# Altium schematic symbol library G2_LV.SCHLIB: 40 symbols
Pins are listed as number, name and electrical type; pins without a type are passive.

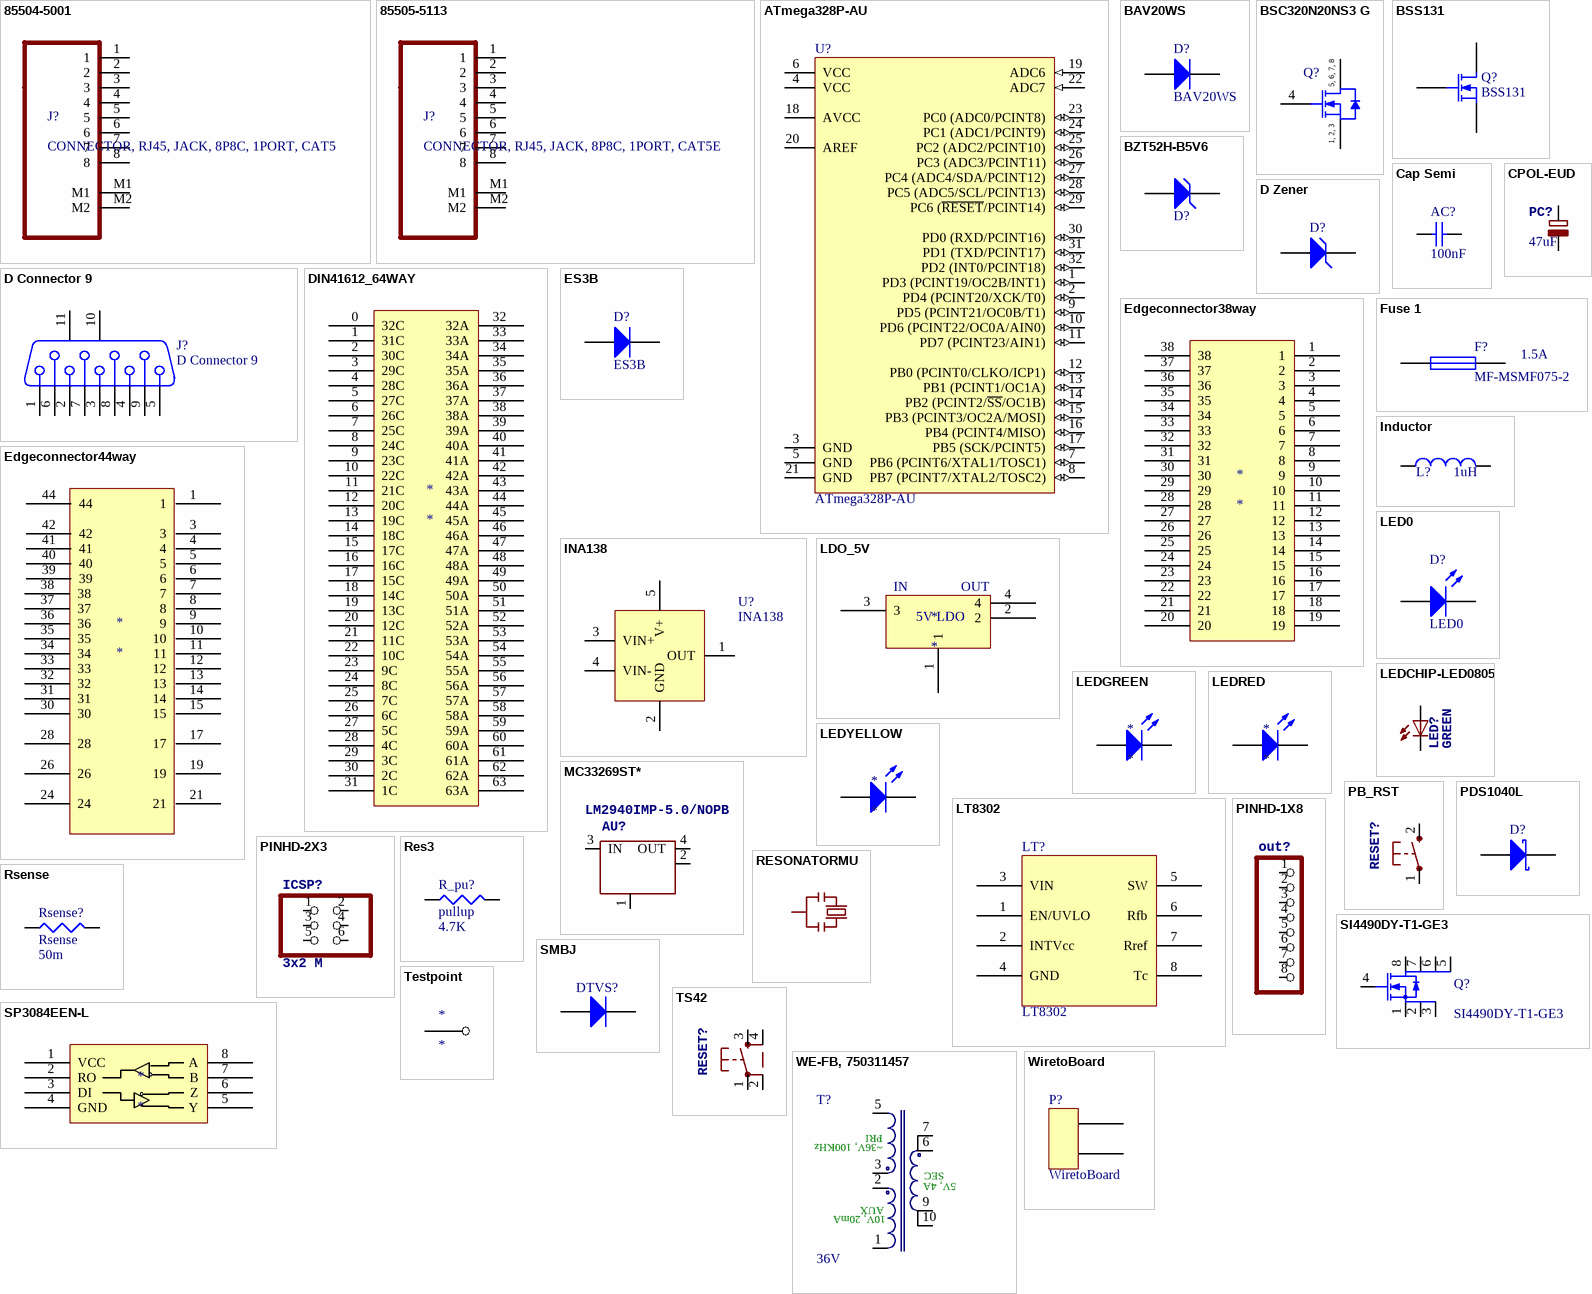
[diagram p0: symbols 85504-5001 to WiretoBoard]

## 85504-5001
designator J?, comment CONNECTOR, RJ45, JACK, 8P8C, 1PORT, CAT5
MPN: 85504-5001; OC_FARNELL: 2313732; OC_NEWARK: 96W3689; PACKAGE: RJ45, JACK, 8P8C; SUPPLIER: MOLEX
footprint MOLEX_85504-5001
pins: 1, 2, 3, 4, 5, 6, 7, 8, M1, M2

## 85505-5113
designator J?, comment CONNECTOR, RJ45, JACK, 8P8C, 1PORT, CAT5E
MPN: 85505-5113; OC_FARNELL: 1560163; OC_NEWARK: 96M8715; PACKAGE: RJ45, JACK, 8P8C; SUPPLIER: Molex
footprint MOLEX_85505-5113
pins: 1, 2, 3, 4, 5, 6, 7, 8, M1, M2

## ATmega328P-AU
designator U?
8-bit AVR Microcontroller, 32KB Flash, 1KB EEPROM, 2KB SRAM, 32-pin TQFP, Industrial Grade (-40°C to 85°C); DatasheetVersion: revD, May-2011; PackageVersion: revC, Oct-2010; PackageReference: 32A; PackageDescription: 32-Lead, 7x7x1.0 mm Body, 0.8mm Lead Pitch, Thin Profile Plastic Quad Flat Package (TQFP); Code_JEDEC: MS-026-ABA; ComponentLink1Description: Manufacturer URL; ComponentLink1URL: http://www.atmel.com/; ComponentLink2Description: ATmega48A/48PA/88A/88PA/168A/168PA/328/328P Datasheet; ComponentLink2URL: http://www.atmel.com/dyn/resources/prod_documents/doc8271.pdf; ComponentLink3Description: ATmega48A/48PA/88A/88PA/168A/168PA/328/328P Summary; ComponentLink3URL: http://www.atmel.com/dyn/resources/prod_documents/8271S.pdf; PartNo: ATmega328P-AU
footprint 32A_N (Thin QFP, 32-Leads, Body 7x7mm, Pitch 0.8mm, IPC Medium Density)
footprint 32A_L (Thin QFP, 32-Leads, Body 7x7mm, Pitch 0.8mm, IPC High Density)
footprint 32A_M (Thin QFP, 32-Leads, Body 7x7mm, Pitch 0.8mm, IPC Low Density)
pins: 1 PD3 (PCINT19/OC2B/INT1) (io), 2 PD4 (PCINT20/XCK/T0) (io), 3 GND (power), 4 VCC (power), 5 GND (power), 6 VCC (power), 7 PB6 (PCINT6/XTAL1/TOSC1) (io), 8 PB7 (PCINT7/XTAL2/TOSC2) (io), 9 PD5 (PCINT21/OC0B/T1) (io), 10 PD6 (PCINT22/OC0A/AIN0) (io), 11 PD7 (PCINT23/AIN1) (io), 12 PB0 (PCINT0/CLKO/ICP1) (io), 13 PB1 (PCINT1/OC1A) (io), 14 PB2 (PCINT2/~{SS}/OC1B) (io), 15 PB3 (PCINT3/OC2A/MOSI) (io), 16 PB4 (PCINT4/MISO) (io), 17 PB5 (SCK/PCINT5) (io), 18 AVCC (power), 19 ADC6 (in), 20 AREF, 21 GND (power), 22 ADC7 (in), 23 PC0 (ADC0/PCINT8) (io), 24 PC1 (ADC1/PCINT9) (io), 25 PC2 (ADC2/PCINT10) (io), 26 PC3 (ADC3/PCINT11) (io), 27 PC4 (ADC4/SDA/PCINT12) (io), 28 PC5 (ADC5/SCL/PCINT13) (io), 29 PC6 (~{RESET}/PCINT14) (io), 30 PD0 (RXD/PCINT16) (io), 31 PD1 (TXD/PCINT17) (io), 32 PD2 (INT0/PCINT18) (io)

## BAV20WS
designator D?
Power Diode; Note: Pin 2 is not connected and not drawn.; Published: 21-Mar-2003; LatestRevisionDate: 29-May-2009; LatestRevisionNote: IPC-7351 Footprint Added.; DatasheetVersion: Oct-1999; PackageVersion: Sep-2001; PackageReference: SOT-23; Publisher: Altium Limited; PackageDescription: 3-Pin SOT-23 Package 0.95 mm Pitch, 2.5 mm Lead Span; ComponentLink1Description: Manufacturer Link; ComponentLink1URL: http://www.infineon.com/; ComponentLink2Description: Datasheet; ComponentLink2URL: http://www.infineon.com/upload/Document/cmc_upload/documents/080/656/bas116series.pdf; PartNo: BAV20WS
footprint SOD-323
pins: 1 K, 2 A

## BSC320N20NS3 G
designator Q?
N-Channel OptiMOS 3 Power-Transistor, 200 V VDS, 36 A ID, -55 to 150 degC, PG-TDSON-8-1, Reel, Green; Manufacturer: Infineon; PartNumber: BSC320N20NS3 G; Green: TRUE; ID (max): 36 A; IDpuls (max): 144 A; Polarity: N; Ptot (max): 125 W; QG: 22 nC; RDS (on) (max): 32 mOhm; Rth: 1 K/W; RthJA (max): 1.5 K/W; RthJC (max): 62 K/W; VDS (max): 200 V; VGS(th) (max): 4 V; VGS(th) (min): 2 V; DatasheetVersion: Rev. 2.3; PackageReference: PG-TDSON-8-1; PackageDescription: 8-Pin Plastic (Green) Thin Dual Small Outline Non-Leaded Package, 5.15 x 5.9 mm Body, 1.27 mm Pitch; Supplier 1: Digi-Key; Supplier Part Number 1: BSC320N20NS3 GTR-ND; Supplier 2: Digi-Key; Supplier Part Number 2: BSC320N20NS3 GCT-ND; Supplier 3: Digi-Key; Supplier Part Number 3: BSC320N20NS3 GDKR-ND; Supplier 4: Mouser; Supplier Part Number 4: 726-BSC320N20NS3G; Halogen-free: TRUE; Packing: Reel; Mounting Technology: Surface Mount; ComponentLink1Description: Manufacturer URL; ComponentLink1URL: http://www.infineon.com/; ComponentLink2Description: Datasheet; ComponentLink2URL: http://www.infineon.com/dgdl/BSC320N20NS3+G+Rev2.3.pdf?folderId=db3a3043163797a6011637d4bae7003b&fileId=db3a3043243b5f17012495e37b301571; ComponentLink3Description: Package Specification; ComponentLink3URL: http://www.infineon.com/cms/packages/SMD_-_Surface_Mounted_Devices/P-PG-TDSON/P-PG-TDSON-08-01x_2x_3.html?__locale=en
footprint INF-PG-TDSON-8-1_V (TDSON, 8-Leads, Body 6.15x5.15mm, Pitch 1.27mm)
pins: 1 SOURCE, 2 SOURCE, 3 SOURCE, 4 GATE, 5 DRAIN, 6 DRAIN, 7 DRAIN, 8 DRAIN
text: 5, 6, 7, 8; 1, 2, 3

## BSS131
designator Q?
N-Channel MOSFET; Published: 8-Jun-2000; LatestRevisionDate: 17-Jul-2002; LatestRevisionNote: Re-released for DXP Platform.; PackageVersion: 1995/1996; PackageReference: E3; Publisher: Altium Limited; PackageDescription: TO, Flat Index; 3 In-Line, Axial Leads; Body Dia. 4.6mm; Lead Dia. 0.5 mm (max); PartNo: BSS131
footprint SOT-23
pins: 1 G, 2 S, 3 D

## BZT52H-B5V6
designator D?  (value not drawn)
Zener Diode; Published: 8-Jun-2000; LatestRevisionDate: 17-Jul-2002; LatestRevisionNote: Re-released for DXP Platform.; PackageReference: DIODE-0.7; Publisher: Altium Limited; PackageDescription: Diode, Thru-Hole; 2 Leads; 0.7 in Pin Spacing; PartNo: BZT52H-B5V6
footprint SOD123F; pin to pad 1>2 2>1
pins: 1 A, 2 K

## Cap Semi
designator AC?  value 100nF  (hidden comment: Cap Semi)
Capacitor (Semiconductor SIM Model); PartNo: CC0603KRX7R9BB104; Published: 8-Jun-2000; LatestRevisionDate: 29-May-2009; LatestRevisionNote: IPC-7351 Footprint Added.; PackageReference: C1206; Publisher: Altium Limited; PackageDescription: Chip Capacitor
footprint C1206 (Chip Capacitor, Body 3.2x1.6mm, IPC High Density)
footprint 0402 (Chip Capacitor, Body 1.0x0.5mm, IPC High Density)
footprint C2512 (Chip Capacitor, Body 2.54x1.27mm, IPC High Density)
footprint 1608[0603] (Chip Capacitor, Body 1.6x0.8mm, IPC High Density)
footprint C1210 (Chip Capacitor, Body 3.2x2.5mm, IPC High Density)
simulation model CAP (Semiconductor Capacitor)
signal-integrity model Cap Semi
footprint 1812 (Chip Capacitor, Body 4.5x3.2mm, IPC High Density)
pins: 1, 2

## CPOL-EUD
designator PC?, comment value 47uF  (hidden comment: <B>POLARIZED CAPACITOR</B>, European symbol)
PartNo: EEE1EA470WAP
footprint PANASONIC_D
pins: 1, 2

## D Connector 9
designator J?
Receptacle Assembly, 9 Position, Right Angle; PartNo: 1734354-1; PackageDocument: O; Positions: 9; Published: 15-Jun-2001; LatestRevisionDate: 17-Jul-2002; LatestRevisionNote: Re-released for DXP Platform.; DatasheetDocument: 1-Sep-1999; PackageReference: 788750; Publisher: Altium Limited; Orientation: Right Angle; Gender: Receptacle
footprint DSUB1.385-2H9 (Connector; D Subminiature; 9 Position; Right Angle; Pitch 1.385 mm)
signal-integrity model Connector
pins: 1, 2, 3, 4, 5, 6, 7, 8, 9, 10 MH1, 11 MH2

## D Zener
designator D?, comment SMAJ30A  (value not drawn)
Zener Diode; Published: 8-Jun-2000; LatestRevisionDate: 17-Jul-2002; LatestRevisionNote: Re-released for DXP Platform.; PackageReference: DIODE-0.7; Publisher: Altium Limited; PackageDescription: Diode, Thru-Hole; 2 Leads; 0.7 in Pin Spacing; PartNo: SMAJ30A
footprint DIODE-0.7 (Diode, Thru-Hole; 2 Leads; 0.7 in Pin Spacing)
simulation model ZENER (Diode)
signal-integrity model D Zener
footprint DO-214AC
pins: 1 A, 2 K

## DIN41612_64WAY
designator *
footprint 09 03 164 6919
pins: 0 32C, 1 31C, 2 30C, 3 29C, 4 28C, 5 27C, 6 26C, 7 25C, 8 24C, 9 23C, 10 22C, 11 21C, 12 20C, 13 19C, 14 18C, 15 17C, 16 16C, 17 15C, 18 14C, 19 13C, 20 12C, 21 11C, 22 10C, 23 9C, 24 8C, 25 7C, 26 6C, 27 5C, 28 4C, 29 3C, 30 2C, 31 1C, 32 32A, 33 33A, 34 34A, 35 35A, 36 36A, 37 37A, 38 38A, 39 39A, 40 40A, 41 41A, 42 42A, 43 43A, 44 44A, 45 45A, 46 46A, 47 47A, 48 48A, 49 49A, 50 50A, 51 51A, 52 52A, 53 53A, 54 54A, 55 55A, 56 56A, 57 57A, 58 58A, 59 59A, 60 60A, 61 61A, 62 62A, 63 63A

## Edgeconnector38way
designator *
footprint FCIEdge; pin to pad 1>A1 2>A2 3>A3 4>A4 5>A5 6>A6 7>A7 8>A8 9>A9 10>A10 11>A11 12>A12 13>A13 14>A14 15>A15 16>A16 17>A17 18>A18 19>A19 20>B19 21>B18 22>B17 23>B16 24>B15 25>B14 26>B13 27>B12 28>B11 29>B10 30>B9 31>B8 32>B7 33>B6 34>B5 35>B4 36>B3 37>B2 38>B1
pins: 1, 2, 3, 4, 5, 6, 7, 8, 9, 10, 11, 12, 13, 14, 15, 16, 17, 18, 19, 20, 21, 22, 23, 24, 25, 26, 27, 28, 29, 30, 31, 32, 33, 34, 35, 36, 37, 38

## Edgeconnector44way
designator *
footprint 44wayPCBEdgeConnector
pins: 1, 3, 4, 5, 6, 7, 8, 9, 10, 11, 12, 13, 14, 15, 17, 19, 21, 24, 26, 28, 30, 31, 32, 33, 34, 35, 36, 37, 38, 39, 40, 41, 42, 44

## ES3B
designator D?
Power Diode; Note: Pin 2 is not connected and not drawn.; Published: 21-Mar-2003; LatestRevisionDate: 29-May-2009; LatestRevisionNote: IPC-7351 Footprint Added.; DatasheetVersion: Oct-1999; PackageVersion: Sep-2001; PackageReference: SOT-23; Publisher: Altium Limited; PackageDescription: 3-Pin SOT-23 Package 0.95 mm Pitch, 2.5 mm Lead Span; ComponentLink1Description: Manufacturer Link; ComponentLink1URL: http://www.infineon.com/; ComponentLink2Description: Datasheet; ComponentLink2URL: http://www.infineon.com/upload/Document/cmc_upload/documents/080/656/bas116series.pdf; PartNo: ES3B
footprint DO-214AB
pins: 1 K, 2 A

## Fuse 1
designator F?, comment MF-MSMF075-2  Tripping current: 1.5A
Fuse; PartNo: MF-MSMF075/24-2; Published: 8-Jun-2000; LatestRevisionDate: 17-Jul-2002; LatestRevisionNote: Re-released for DXP Platform.; PackageReference: PIN-W2/E2.8; Publisher: Altium Limited; PackageDescription: Thru-Hole; 2 Leads
footprint PIN-W2/E2.8 (Thru-Hole; 2 Leads)
simulation model FUSE (Spice Subcircuit)
footprint MF-MSMF1
footprint MF-MSMF2
pins: 1, 2

## INA138
designator U?
PartNo: INA138NA/250
footprint SOT-23
pins: 1 OUT, 2 GND, 3 VIN+, 4 VIN-, 5 V+

## Inductor
designator L?  value 1uH  (hidden comment: Inductor)
PartNo: MPLC0730L1R0; Code_IEC: 1005; Published: 8-Jun-2000; LatestRevisionDate: 29-May-2009; LatestRevisionNote: IPC-7351 Footprint Added.; PackageReference: 0402-A; Publisher: Altium Limited; PackageDescription: Chip Inductor; Code_JEITA: 0402
footprint MPLC0730
pins: 1, 2

## LDO_5V
designator *
PartNo: NCP1117ST50T3G
footprint SOT223
pins: 1, 2, 3, 4
text: IN; OUT; 5V LDO

## LED0
designator D?
Typical INFRARED GaAs LED; Published: 8-Jun-2000; LatestRevisionDate: 08-Jul-2005; LatestRevisionNote: Mech Layer 1 removed.; PackageReference: LED-0; Publisher: Altium Limited; PackageDescription: LED; 2 Leads
footprint LED-0 (LED; 2 Leads)
simulation model LED0 (Diode)
pins: 1 A, 2 K

## LEDCHIP-LED0805
designator LED?, comment GREEN
PartNo: KPT-2012SGC
footprint CHIP-LED0805
pins: A, C

## LEDGREEN
designator *
footprint LEDGREEN (LED; 2 Leads)
pins: 1 K, 2 A

## LEDRED
designator *
footprint LEDRED (LED; 2 Leads)
pins: 1 K, 2 A

## LEDYELLOW
designator *
footprint LEDYELLOW (LED; 2 Leads)
pins: 1 K, 2 A

## LT8302
designator LT?
PartNo: LT8302ES8E#PBF
footprint S8E
pins: 1 EN/UVLO, 2 INTVcc, 3 VIN, 4 GND, 5 SW, 6 Rfb, 7 Rref, 8 Tc

## MC33269ST*
designator AU?, comment LM2940IMP-5.0/NOPB
1469076; PartNo: LM2940IMP-5.0/NOPB
footprint SOT223
pins: 1 GND/ADJ, 2 OUT, 3 IN, 4 OUT

## PB_RST
designator RESET?
PartNo: 1-1825027-4
footprint 1-1825027-4
pins: 1, 2

## PDS1040L
designator D?  (value not drawn)
Schottky Diode; PartNo: PDS1040L-13; Published: 8-Jun-2000; LatestRevisionDate: 17-Jul-2002; LatestRevisionNote: Re-released for DXP Platform.; PackageReference: SMC; Publisher: Altium Limited; Code_JEDEC: DO-214-AA
footprint PDS1040L
pins: 1 A, 2 K

## PINHD-1X8
designator out?
PartNo: 5-534237-4
footprint 1X08
pins: 1, 2, 3, 4, 5, 6, 7, 8

## PINHD-2X3
designator ICSP?, comment 3x2 M
PartNo: M20-9980345
footprint 2X03
pins: 1, 2, 3, 4, 5, 6

## Res3
designator R_pu?, comment pullup  value 4.7K
Resistor; Published: 8-Jun-2000; LatestRevisionDate: 29-May-2009; LatestRevisionNote: IPC-7351 Footprint Added.; PackageReference: J1-0603; Publisher: Altium Limited; PackageDescription: Chip Resistor
footprint J1-0603 (Chip Resistor, Body 1.6x0.8mm, IPC High Density)
footprint 14-1210 (Chip Resistor, Body 3.2x2.5mm, IPC High Density)
footprint 12Z-2010 (Chip Resistor, Body 5.0x2.5mm, IPC High Density)
footprint RESC6332 (Chip Resistor, Body 6.3x3.2mm, IPC High Density)
simulation model RESISTOR (Resistor)
signal-integrity model Res
footprint C1206 (Chip Capacitor, Body 3.2x1.6mm, IPC High Density)
pins: 1, 2

## RESONATORMU
designator Y?
PartNo: CSTCE16M0V53-R0
footprint RESONATOR
pins: 1, 2, 3

## Rsense
designator Rsense?  value 50m
CRF2512-FV-R001ELF; PartNo: MCS3264R050FER; Published: 8-Jun-2000; LatestRevisionDate: 29-May-2009; LatestRevisionNote: IPC-7351 Footprint Added.; PackageReference: J1-0603; Publisher: Altium Limited; PackageDescription: Chip Resistor
footprint R6432
pins: 1, 2

## SI4490DY-T1-GE3
designator Q?
footprint SOIC-8
pins: 1 S, 2 S, 3 S, 4 G, 5 D, 6 D, 7 D, 8 D

## SMBJ
designator DTVS?, comment SMBJ24A-E3/52  (value not drawn)
TVS; Note: Pin 2 is not connected and not drawn.; Published: 21-Mar-2003; LatestRevisionDate: 29-May-2009; LatestRevisionNote: IPC-7351 Footprint Added.; DatasheetVersion: Oct-1999; PackageVersion: Sep-2001; PackageReference: SOT-23; Publisher: Altium Limited; PackageDescription: 3-Pin SOT-23 Package 0.95 mm Pitch, 2.5 mm Lead Span; ComponentLink1Description: Manufacturer Link; ComponentLink1URL: http://www.infineon.com/; ComponentLink2Description: Datasheet; ComponentLink2URL: http://www.infineon.com/upload/Document/cmc_upload/documents/080/656/bas116series.pdf; PartNo: SMBJ24A-E3/52
footprint DO-214AA
pins: 1 K, 2 A

## SP3084EEN-L
designator *
footprint SOICN8
pins: 1 VCC, 2 RO, 3 DI, 4 GND, 5 Y, 6 Z, 7 B, 8 A

## Testpoint
designator *
footprint Testpoint_2.29mm
pins: 0

## TS42
designator RESET?
PartNo: B3S-1002
footprint B3S-1002
pins: 1, 2, 3, 4

## WE-FB, 750311457
designator T?, comment 36V
Flyback Transformer suitable or LT3573/ LT3574/ LT3575/ LT3748 WE-FB, Ui=36V; PartNo: 750311457; Manufacturer: Würth Elektronik eiSos GmbH; Ui: 36V; ComponentLink1Description: Manufacturer; ComponentLink1URL: http://www.we-online.de; Created by: Otto Christin; Created Date: OCT 2013; ComponentLink2Description: Datasheet; ComponentLink2URL: http://katalog.we-online.de/pbs/datasheet/750311457.pdf
footprint EP13 (SMD, 10-Leads, Body 13.5x14.0mm (max), Pitch 2.48mm, IPC Medium Density)
pins: 1, 2, 3, 5, 6, 7, 9, 10
text: PRI; ~36V, 100KHz; SEC; 5V, 4A; AUX; 10V, 20mA

## WiretoBoard
designator P?
PartNo: 64T3402; Supplier 1: Newark; Supplier Part Number 1: 64T3402
footprint MC000044
pins: 1, 2